# Altium footprint library Diodo.PcbLib: 39 footprints (part 1 of 3)
Each footprint in its own frame and in the unit in brackets; x right, y up, seen from the top. Pads: shape width x height; smd on the part's side, far side on the other; paste and mask are expansions set on the pad; w line width, h text height; cw(c..) or ccw(c..) is an arc to the next point about the centre after c.
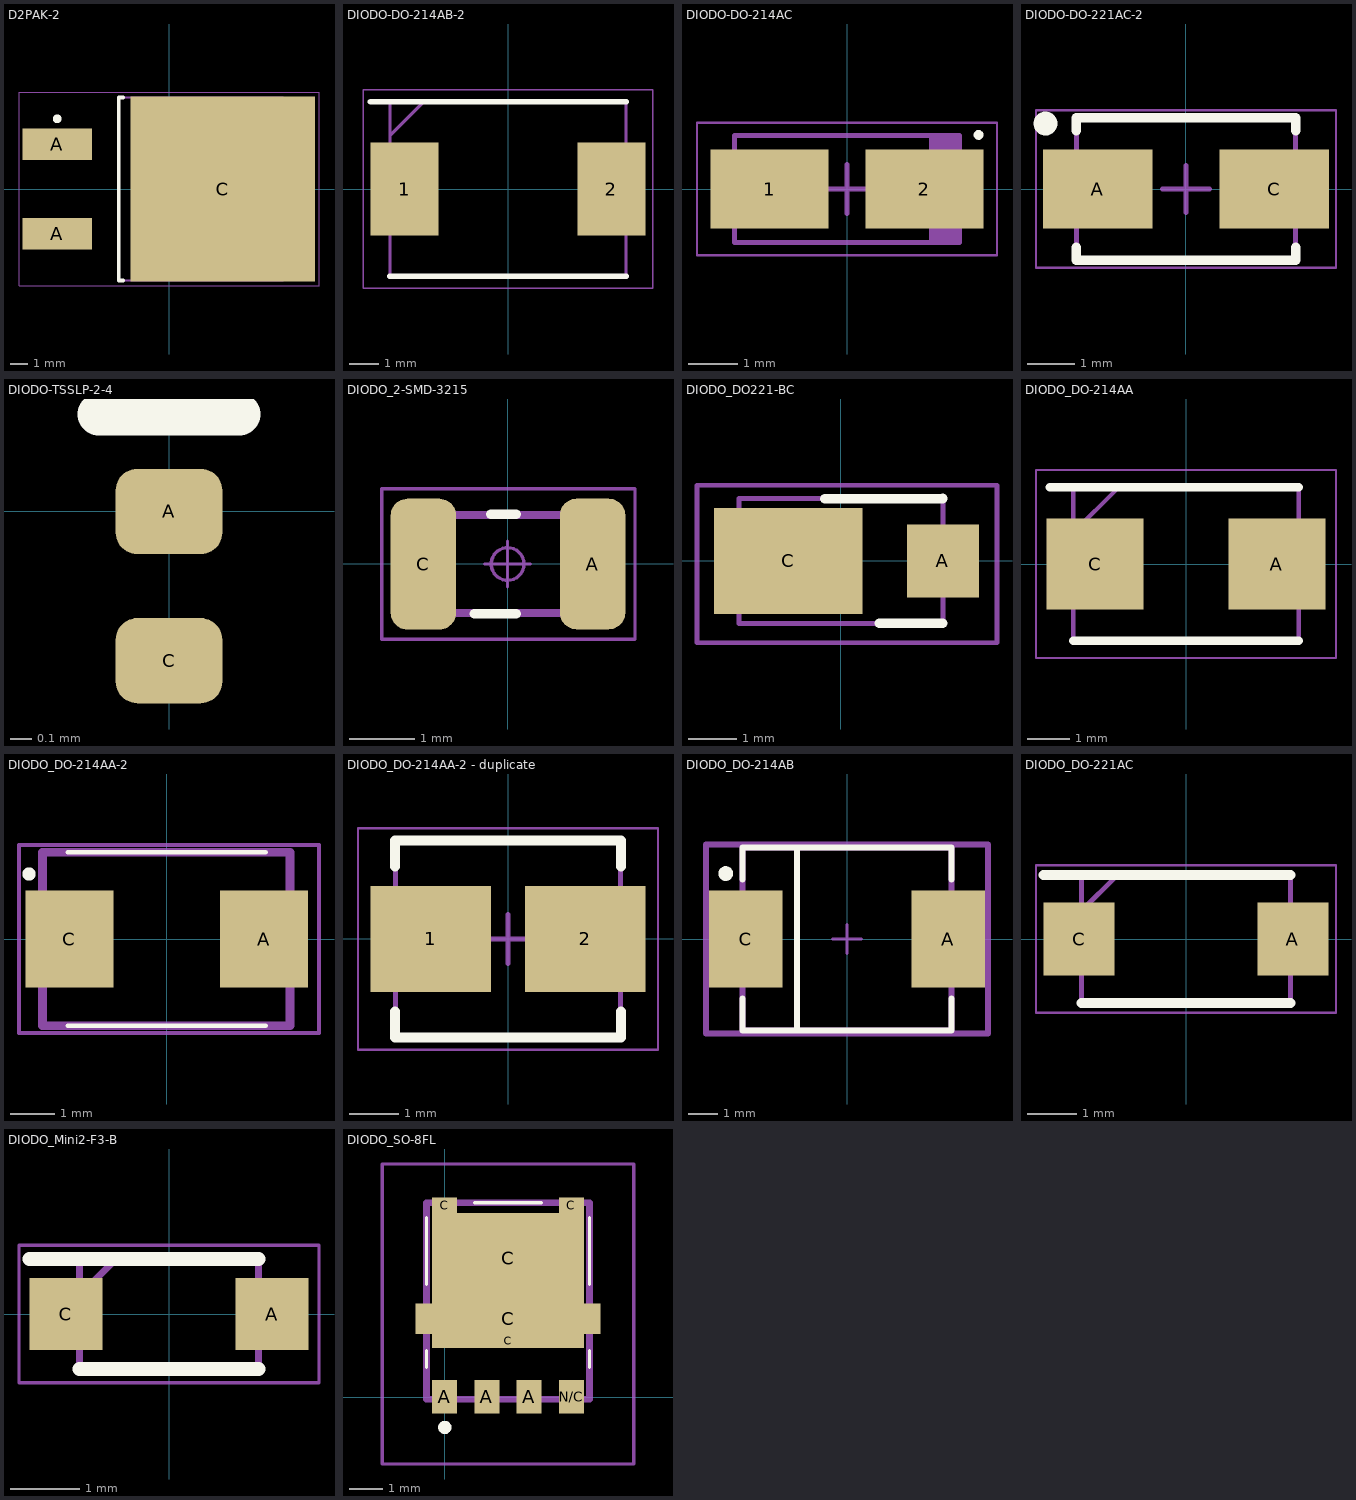
[diagram p0: the footprints below, top view; thin cyan lines are the x and y axes]

## CAPM3216X18N [mm]
height 1.08

## D2PAK-2 [mm]
height 4.6
pads (3):
  rect 3.95x1.8 smd: A(-6.35,-2.54) A(-6.35,2.54)
  rect 10.5x10.5 smd: C(3.05,0)
Top Overlay:
  circle w0.25: c-6.35,3.99 r0.125
  lines w0.2: -2.6,-5.2 -2.85,-5.2 -2.85,5.2 -2.6,5.2
Mechanical 13:
  lines w0.1: -2.85,-5.2 -2.85,5.2 6.5,5.2 6.5,-5.2 -2.85,-5.2
Mechanical 15:
  lines w0.05: -8.525,-5.5 -8.525,5.5 8.525,5.5 8.525,-5.5 -8.525,-5.5
  lines w0.1: -0.5,0 0.5,0 ; 0,-0.5 0,0.5
3D body "STPS20200CG-TR.step": height 4.63, standoff 0, extent -6.51,-5.2 8.915,5.2

## Diode - duplicate [mm]

## DIODO-DO-214AB-2 [mm]
pads (2):
  rect 2.3x3.15 smd: 1(-3.5,0) 2(3.5,0)
Top Overlay:
  lines w0.2: -4.65,2.952 4,2.952 ; -4,-2.952 4,-2.952
Mechanical 13:
  lines w0.1: -4,1.802 -2.85,2.952 ; -4,-2.952 -4,2.952 4,2.952 4,-2.952 -4,-2.952
Mechanical 15:
  lines w0.05: -4.9,-3.36 -4.9,3.36 4.9,3.36 4.9,-3.36 -4.9,-3.36
3D body "CDBC540-G.stp": height 2.9, standoff 0, extent -4,-2.953 4,2.953

## DIODO-DO-214AC [mm] "Molded Diode, 2-Leads, Body 4,31x2,18mm, IPC Medium Density"
height 2.31
pads (2):
  rect 2.4x1.6 smd: 1(-1.575,0) 2(1.575,0)
Top Overlay:
  circle w0.1: c2.675,1.1 r0.05
Mechanical 13:
  rectangle: 1.67,-1.09 2.285,1.09
  lines w0.1: -2.285,-1.09 2.285,-1.09 2.285,1.09 -2.285,1.09 -2.285,-1.09
Mechanical 15:
  lines w0.05: -3.05,-1.35 3.05,-1.35 3.05,1.35 -3.05,1.35 -3.05,-1.35
  lines w0.1: -0.5,0 0.5,0 ; 0,-0.5 0,0.5
3D body "DO-214AC.step": height 2.31, standoff 0, extent -2.505,-1.09 2.505,1.09

## DIODO-DO-221AC-2 [mm] "SODFL, 2-Leads, Body 2,60x5,00mm, IPC Medium Density"
height 1.1
pads (2):
  rect 2.3x1.65 smd: A(-1.85,0) C(1.85,0)
Top Overlay:
  circle w0.25: c-2.95,1.375 r0.125
  lines w0.2: -2.3,-1.225 -2.3,-1.5 2.3,-1.5 2.3,-1.225 ; -2.3,1.225 -2.3,1.5 2.3,1.5 2.3,1.225
Mechanical 13:
  lines w0.1: -2.3,-1.475 -2.3,1.475 2.3,1.475 2.3,-1.475 -2.3,-1.475
Mechanical 15:
  lines w0.05: -3.15,-1.65 -3.15,1.65 3.15,1.65 3.15,-1.65 -3.15,-1.65
  lines w0.1: -0.5,0 0.5,0 ; 0,-0.5 0,0.5
3D body "SODFL500X110-2N.step": height 1.1, standoff 0, extent -2.5,-1.475 2.5,1.475

## DIODO-TSSLP-2-4 [mm]
pads (2):
  rrect50% 0.5x0.4 smd: A(0,0) C(0,-0.7)
Top Overlay:
  lines w0.2: -0.33,0.457 0.33,0.457
3D body "User Library-TSLP-2-20.STEP": height 0.3, standoff -0.01, extent -0.3,-0.855 0.3,0.145

## DIODO_2-SMD-3215 [mm]
pads (2):
  rrect50% 1x2 smd: A(1.3,0) C(-1.288,-0.001)
Top Overlay:
  lines w0.15: -0.508,-0.762 0.127,-0.762 ; -0.254,0.762 0.127,0.762
Mechanical 11:
  lines w0.12: -1.35,-0.751 -1.35,0.749 1.375,0.749 1.375,-0.751 -1.35,-0.751
Mechanical 12:
  lines w0.025: -1.3,-0.569 -1.3,0.681 ; -1.3,-0.569 -0.9,-0.569 -0.9,0.681 -1.3,0.681 ; -1.3,-0.569 -1.3,0.681
Mechanical 15:
  circle w0.05: c0,0 r0.25
  lines w0.05: -0.35,0 0.35,0 ; 0,-0.35 0,0.35 ; -1.925,-1.15 -1.925,1.15 1.95,1.15 1.95,-1.15 -1.925,-1.15
3D body "LED_1206_Blue.stp": height 0.9, standoff 0, extent -1.61,-0.775 1.66,0.875

## DIODO_DO221-BC [mm]
pads (2):
  rect 1.5x1.52 smd: A(2.125,0)
  rect 3.1x2.2 smd: C(-1.095,0)
Top Overlay:
  lines w0.2: -0.33,1.295 2.125,1.3 ; 0.8,-1.3 2.125,-1.3
Mechanical 13:
  lines w0.1: -2.125,-1.3 2.125,-1.3 2.125,1.3 -2.125,1.3 -2.125,-1.3
Mechanical 15:
  lines w0.1: -2.997,-1.702 3.251,-1.702 3.251,1.575 -2.997,1.575 -2.997,-1.702
3D body "V8PAM10S-M3_I.stp": height 1.1, standoff 0, extent -2.425,-1.3 2.725,1.3

## DIODO_DO-214AA [mm]
pads (2):
  rect 2.3x2.15 smd: A(2.15,0) C(-2.15,0)
Top Overlay:
  lines w0.2: -3.225,1.812 2.67,1.812 ; -2.67,-1.812 2.67,-1.812
Mechanical 13:
  lines w0.1: -2.67,0.738 -1.595,1.812 ; -2.67,-1.812 2.67,-1.812 2.67,1.812 -2.67,1.812 -2.67,-1.812
Mechanical 15:
  lines w0.05: -3.55,-2.225 3.55,-2.225 3.55,2.225 -3.55,2.225 -3.55,-2.225
3D body "ES2D.stp": height 2.65, standoff 0, extent -2.67,-1.813 2.67,1.813

## DIODO_DO-214AA-2 [mm]
pads (2):
  rect 2x2.2 smd: A(2.21,0) C(-2.21,0)
Top Overlay:
  lines w0.1: -2.25,-1.97 2.25,-1.97 -2.25,-1.97 ; -2.25,1.97 2.25,1.97 -2.25,1.97
  lines w0.2: -3.175,1.473 cw(c-3.125,1.473) -3.075,1.473 ; -3.074,1.473 cw(c-3.124,1.473) -3.174,1.473 ccw(c-3.124,1.473) -3.074,1.473
Mechanical 13:
  lines w0.2: -2.819,-1.97 -2.819,1.97 2.794,1.97 2.794,-1.97 -2.819,-1.97
Mechanical 15:
  lines w0.1: -3.353,-2.134 -3.353,2.134 3.454,2.134 3.454,-2.134 -3.353,-2.134
3D body "ES2D.stp": height 2.65, standoff 0, extent -2.67,-1.812 2.67,1.813

## DIODO_DO-214AA-2 - duplicate [mm] "Molded Capacitor, 2-Leads, Body 4,31x3,62mm, IPC Medium Density"
height 1.8
pads (2):
  rect 2.45x2.15 smd: 1(-1.575,0) 2(1.575,0)
Top Overlay:
  lines w0.2: -2.3,-1.475 -2.3,-2 2.3,-2 2.3,-1.475 ; -2.3,1.475 -2.3,2 2.3,2 2.3,1.475
Mechanical 13:
  lines w0.1: -2.285,-1.97 2.285,-1.97 2.285,1.97 -2.285,1.97 -2.285,-1.97
Mechanical 15:
  lines w0.05: -3.05,-2.25 3.05,-2.25 3.05,2.25 -3.05,2.25 -3.05,-2.25
  lines w0.1: -0.5,0 0.5,0 ; 0,-0.5 0,0.5
3D body "CAPM4336X18N.step": height 1.8, standoff 0, extent -2.505,-1.97 2.505,1.97

## DIODO_DO-214AB [mm]
pads (2):
  rect 2.5x3.3 smd paste+0 mask+0: A(3.45,0) C(-3.45,0)
Top Overlay:
  circle w0.25: c-4.125,2.225 r0.125
  lines w0.2: -3.555,-2.025 -3.555,-3.11 3.555,-3.11 3.555,-2.025 ; -3.555,2.025 -3.555,3.11 3.555,3.11 3.555,2.025 ; -1.7,-3 -1.7,3
Mechanical 5:
  lines w0.2: -4.8,-3.21 4.8,-3.21 4.8,3.21 -4.8,3.21 -4.8,-3.21
  text ".Designator" at 0,-0.001 h1
Mechanical 13:
  lines w0.2: -3.555,-3.11 3.555,-3.11 3.555,3.11 -3.555,3.11 -3.555,-3.11
Mechanical 15:
  lines w0.2: -4.8,-3.21 4.8,-3.21 4.8,3.21 -4.8,3.21 -4.8,-3.21
Mechanical 16:
  lines w0.1: -0.5,0 0.5,0 ; 0,-0.5 0,0.5
3D body "Diode_Diodes_Inc_B540C-13-F_eec.STEP": height 0.25, standoff 0, extent -4.8,-3.21 4.8,3.21

## DIODO_DO-221AC [mm]
pads (2):
  rect 1.45x1.49 smd: A(2.175,0) C(-2.175,0)
Top Overlay:
  lines w0.2: -2.9,1.3 2.125,1.3 ; -2.125,-1.3 2.125,-1.3
Mechanical 13:
  lines w0.1: -2.125,0.575 -1.4,1.3 ; -2.125,-1.3 2.125,-1.3 2.125,1.3 -2.125,1.3 -2.125,-1.3
Mechanical 15:
  lines w0.05: -3.05,-1.5 3.05,-1.5 3.05,1.5 -3.05,1.5 -3.05,-1.5
3D body "SE30AFBHM3_6A.stp": height 1, standoff 0, extent -2.6,-1.3 2.6,1.3

## DIODO_Mini2-F3-B [mm]
pads (2):
  rect 1.06x1.04 smd: A(1.5,0) C(-1.5,0)
Top Overlay:
  lines w0.2: -2.03,0.8 1.3,0.8 ; -1.3,-0.8 1.3,-0.8
Mechanical 13:
  lines w0.1: -1.3,0.27 -0.77,0.8 ; -1.3,-0.8 1.3,-0.8 1.3,0.8 -1.3,0.8 -1.3,-0.8
Mechanical 15:
  lines w0.05: -2.18,-1 2.18,-1 2.18,1 -2.18,1 -2.18,-1
3D body "DB2W40300L.stp": height 0.85, standoff 0, extent -1.75,-0.8 1.75,0.8

## DIODO_SO-8FL [mm]
pads (9):
  rect 0.75x1 smd: A(0,0.021) A(1.27,0.021) A(2.54,0.021) N/C(3.81,0.021)
  rect 0.75x0.475 smd: C(0,5.779) C(3.81,5.779)
  rect 4.56x0.43 smd: C(1.905,1.699)
  rect 5.55x0.91 smd: C(1.905,2.364)
  rect 4.56x2.73 smd: C(1.905,4.179)
Top Overlay:
  lines w0.1: -0.545,0.9 -0.545,1.4 ; -0.545,3.4 -0.545,5.4 ; 0.905,5.85 2.905,5.85 ; 4.355,0.9 4.355,1.4 ; 4.355,3.4 4.355,5.4
  lines w0.2: -0.095,-0.9 ccw(c0.005,-0.9) 0.105,-0.9 ccw(c0.005,-0.9) -0.095,-0.9
Mechanical 13:
  lines w0.2: -0.545,-0.05 4.355,-0.05 4.355,5.85 -0.545,5.85 -0.545,-0.05
Mechanical 15:
  lines w0.1: -1.87,-2 5.68,-2 5.68,7.017 -1.87,7.017 -1.87,-2
3D body "User Library-DFN5x6_SO8FL.STEP": height 1.13, standoff 0, extent -0.67,-0.173 4.48,5.977